# Altium footprint library QFN45P200X200X55-15N.PcbLib: 2 footprints
Each footprint in its own frame and in the unit in brackets; x right, y up, seen from the top. Pads: shape width x height; smd on the part's side, far side on the other; paste and mask are expansions set on the pad; w line width, h text height; cw(c..) or ccw(c..) is an arc to the next point about the centre after c.
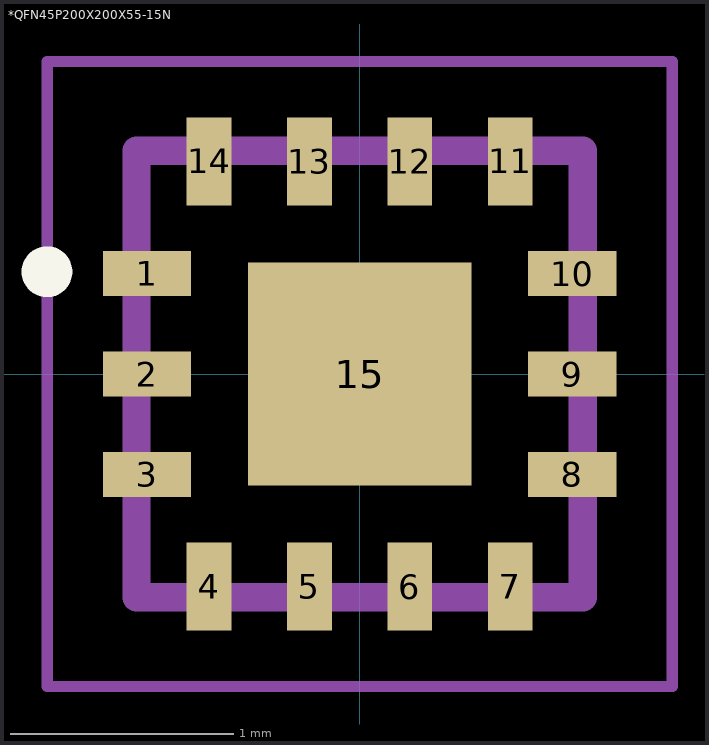
[diagram p0: the footprints below, top view; thin cyan lines are the x and y axes]

## *QFN45P200X200X55-15N [mm]
pads (15):
  rect 0.395x0.2 smd: 1(-0.953,0.45) 2(-0.953,0) 3(-0.953,-0.45) 8(0.953,-0.45) 9(0.953,0) 10(0.953,0.45)
  rect 0.2x0.395 smd: 4(-0.675,-0.953) 5(-0.225,-0.953) 6(0.225,-0.953) 7(0.675,-0.953) 11(0.675,0.953) 12(0.225,0.953) 13(-0.225,0.953) 14(-0.675,0.953)
  rect 1x1 smd: 15(0,0)
Top Overlay:
  circle w0.127: c-1.401,0.458 r0.05
Mechanical 13:
  lines w0.127: -1,-1 -1,1 ; -1,-1 1,-1 ; -1,-1 -1,1 ; -1,-1 1,-1 ; -1,1 1,1 ; -1,1 1,1 ; 1,-1 1,1 ; 1,-1 1,1
Mechanical 15:
  lines w0.05: -1.4,-1.4 -1.4,1.4 1.4,1.4 1.4,-1.4 -1.4,-1.4

## PCBComponent_1 [mm]